# Altium schematic symbol library Crystals.SchLib: 3 symbols
Pins are listed as number, name and electrical type; pins without a type are passive.

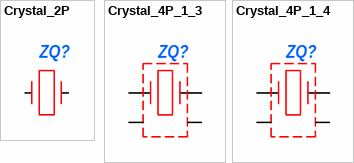
[diagram p0: symbols Crystal_2P to Crystal_4P_1_4]

## Crystal_2P
designator ZQ?  (value not drawn)
Кварцевый резонатор
pins: 1, 2 (power) hidden, 2, 4 (power) hidden

## Crystal_4P_1_3
designator ZQ?  (value not drawn)
Кварцевый резонатор; ComponentLink1Description: *; ComponentLink1URL: *; ComponentLink2Description: *; ComponentLink2URL: *
pins: 1, 2 (power) hidden, 2, 3, 4 (power) hidden, 4

## Crystal_4P_1_4
designator ZQ?  (value not drawn)
Кварцевый резонатор; ComponentLink1Description: *; ComponentLink1URL: *; ComponentLink2Description: *; ComponentLink2URL: *
pins: 1, 2 (power) hidden, 2, 3, 4 (power) hidden, 4